# EAGLE library part PCAL9555A (library df4iah_dataconvertion)
NXP PCAL9555A Low-voltage 16-bit I²C-bus GPIO with Agile I/O, interrupt and weak pull-up
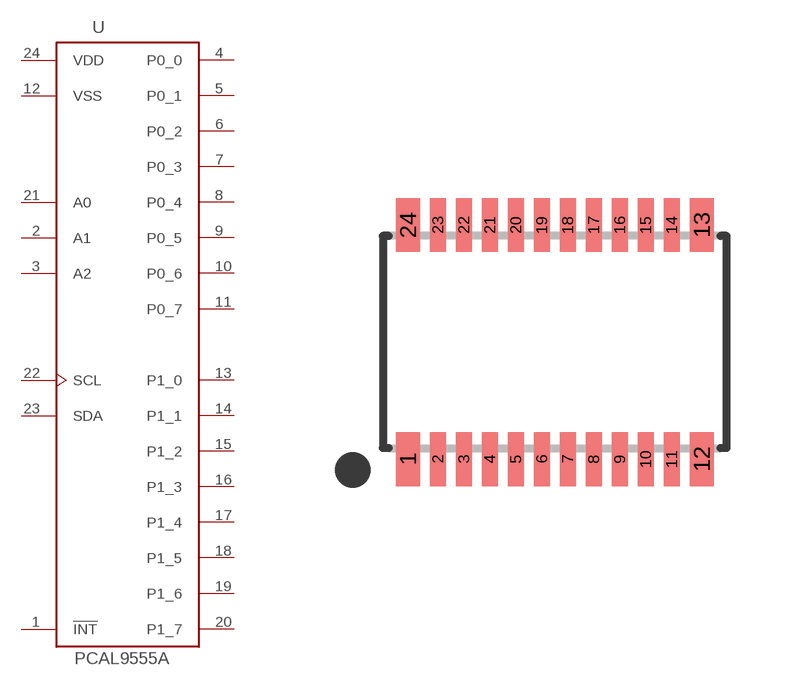
[diagram p4: symbol with the pads of TSSOP24_SOT355-1; footprint TSSOP24_SOT355-1]

Designator prefix U

## PCAL9555A  [TSSOP24_SOT355-1]
1  !INT  out
2  A1  in
3  A2  in
4  P0_0
5  P0_1
6  P0_2
7  P0_3
8  P0_4
9  P0_5
10  P0_6
11  P0_7
12  VSS  pas
13  P1_0
14  P1_1
15  P1_2
16  P1_3
17  P1_4
18  P1_5
19  P1_6
20  P1_7
21  A0  in
22  SCL  in
23  SDA
24  VDD  pwr

## Footprint TSSOP24_SOT355-1 (pad centres in mm)
Thin Shrink Small Outline Package TSSOP-24 / SOT355-1 body: 4.40mm width pitch: 0.65mm
smd 0.6 x 1.35: 1 -3.675,-2.925; 12 3.675,-2.925; 13 3.675,2.925; 24 -3.675,2.925
smd 0.4 x 1.35: 2 -2.925,-2.925; 3 -2.275,-2.925; 4 -1.625,-2.925; 5 -0.975,-2.925; 6 -0.325,-2.925; 7 0.325,-2.925; 8 0.975,-2.925; 9 1.625,-2.925; 10 2.275,-2.925; 11 2.925,-2.925; 14 2.925,2.925; 15 2.275,2.925; 16 1.625,2.925; 17 0.975,2.925; 18 0.325,2.925; 19 -0.325,2.925; 20 -0.975,2.925; 21 -1.625,2.925; 22 -2.275,2.925; 23 -2.925,2.925